# Altium schematic symbol library SnapEDAsch.SchLib: 1 symbol
Pins are listed as number, name and electrical type; pins without a type are passive.

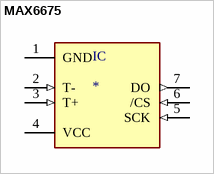
[diagram p0: symbol MAX6675]

## MAX6675
designator IC
IC THERMOCOUP TO DGTL 8-SOIC; MP: MAX6675; MF: Maxim Integrated; Package: SOIC-8 Maxim Integrated; Availability: Unavailable; Value: *; SnapEDA_Link: https://www.snapeda.com/parts/MAX6675/Maxim%20Integrated/view-part/558569/?ref=snap; Price: None
footprint SO08
pins: 1 GND (power), 2 T- (in), 3 T+ (in), 4 VCC (power), 5 SCK (in), 6 /CS (in), 7 DO (out)